# Altium footprint library TPD1E10B09.PcbLib: 1 footprints
Each footprint in its own frame and in the unit in brackets; x right, y up, seen from the top. Pads: shape width x height; smd on the part's side, far side on the other; paste and mask are expansions set on the pad; w line width, h text height; cw(c..) or ccw(c..) is an arc to the next point about the centre after c.
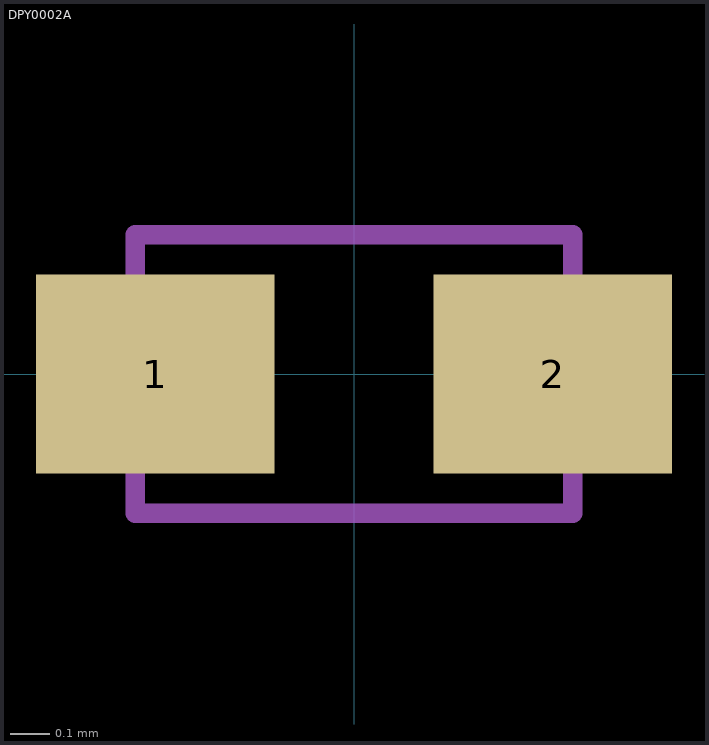
[diagram p0: the footprint, top view; thin cyan lines are the x and y axes]

## DPY0002A [mm]
pads (2):
  rect 0.6x0.5 smd paste+0 mask+0.051: 1(-0.5,0) 2(0.5,0)
Mechanical 13:
  lines w0.05: -0.55,-0.35 0.55,-0.35 0.55,0.35 -0.55,0.35 -0.55,-0.35
3D body: height 0.25, standoff 0, extent 0,0 0.254,0.254